# Altium footprint library D 电容.PCBLIB: 81 footprints (part 2 of 6)
Each footprint in its own frame and in the unit in brackets; x right, y up, seen from the top. Pads: shape width x height; smd on the part's side, far side on the other; paste and mask are expansions set on the pad; w line width, h text height; cw(c..) or ccw(c..) is an arc to the next point about the centre after c.
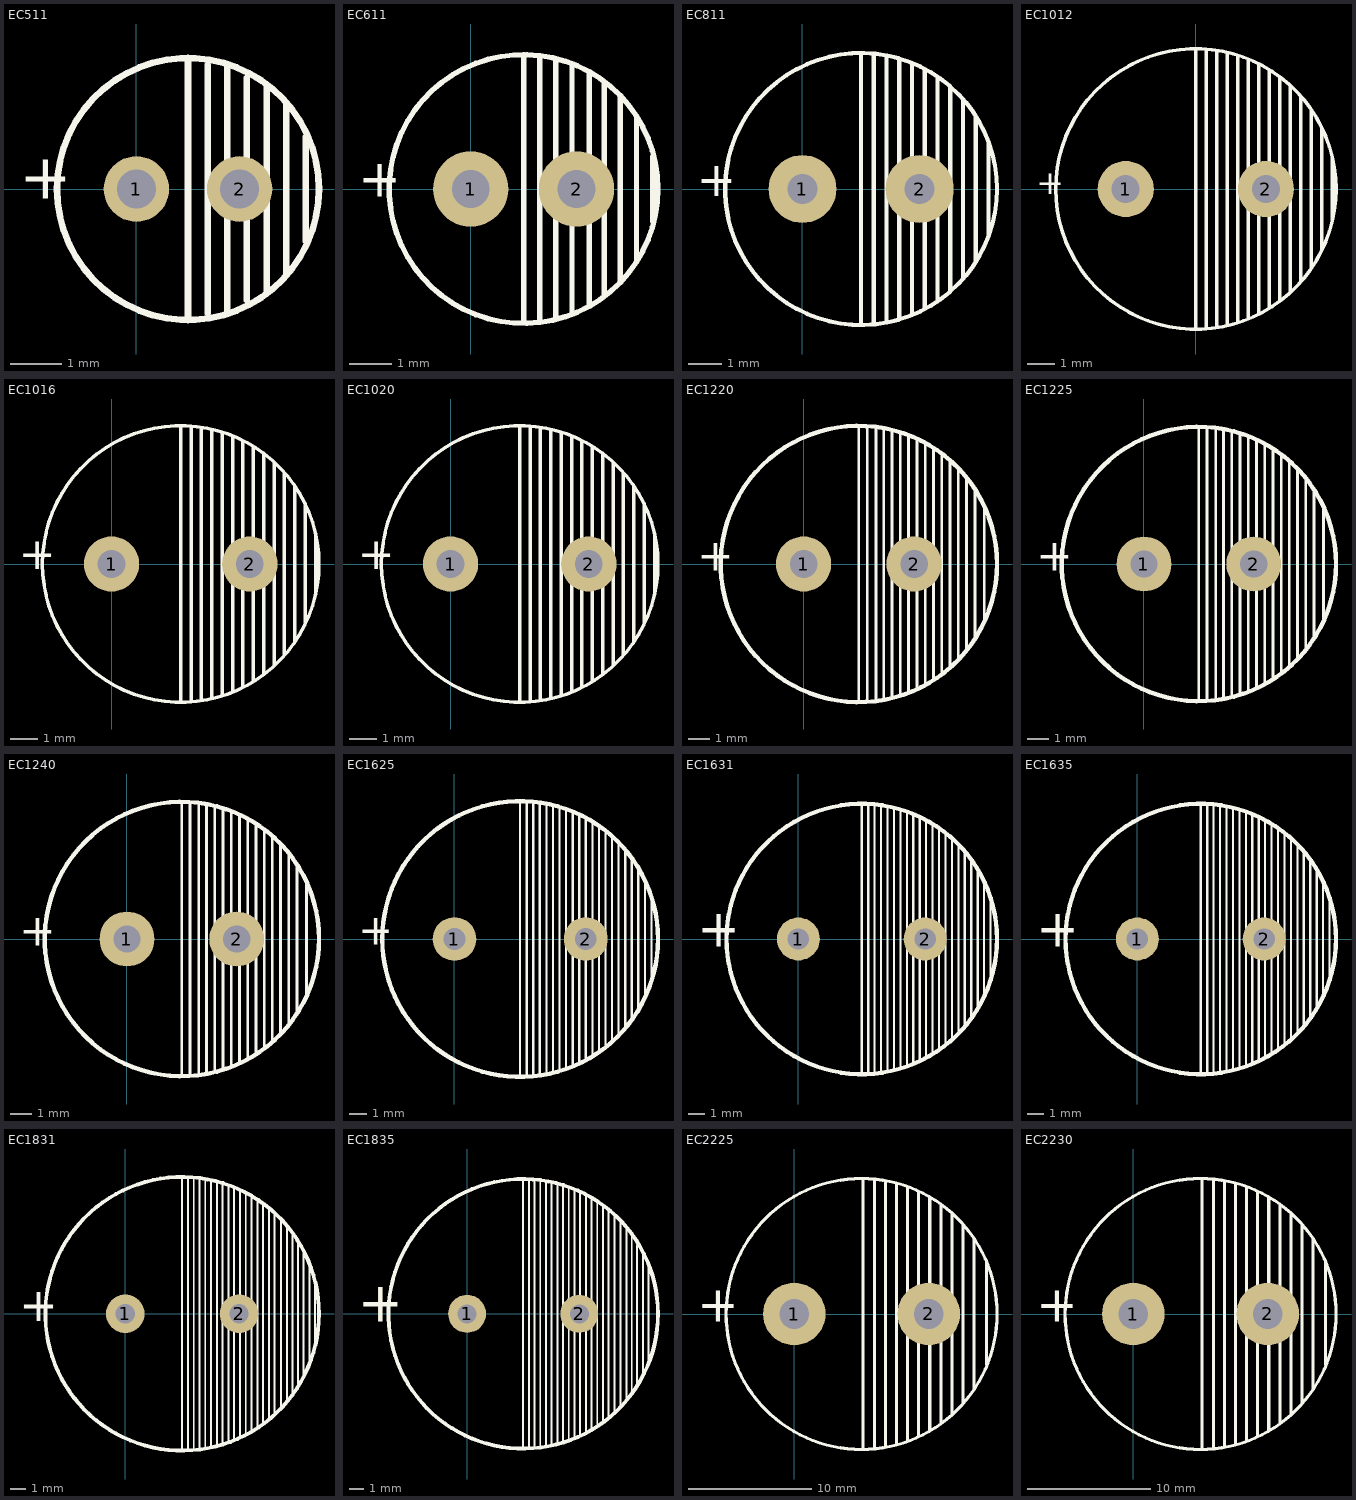
[diagram p1: the footprints below, top view; thin cyan lines are the x and y axes]

## EC511 [mil] "电解电容/脚距2mm/直径5mm/高度11mm"
height 433.07
pads (2):
  round 50 hole 30: 1(0,0) 2(78.74,0)
Top Overlay:
  circle w5: c39.37,0 r100
  lines w5: 39.37,-100 39.37,100 ; 54.37,-95 54.37,95 ; 69.37,-95 69.37,95 ; 84.37,-85 84.37,85 ; 99.37,-80 99.37,80 ; 114.37,-65 114.37,65 ; 129.37,-40 129.37,40
  text "+" at -89.63,-19 h60
Bottom Overlay:
  text "+" at -29.63,-19 h60

## EC611 [mil] "电解电容/脚距2.5mm/直径6.3mm/高度11mm"
height 433.07
pads (2):
  round 70 hole 35: 1(0,0) 2(98.43,0)
Top Overlay:
  circle w5: c49.21,0 r125
  lines w5: 49.21,-124 49.21,125 ; 64.21,-122 64.21,124 ; 79.21,-121 79.21,120 ; 94.21,-115 94.21,115 ; 110.21,-108 110.21,107 ; 124.21,-98 124.21,98 ; 139.21,-86 139.21,85 ; 154.21,-66 154.21,65 ; 169.21,-30 169.21,30
  text "+" at -104.79,-19 h60
Bottom Overlay:
  text "+" at -38.79,-19 h60

## EC811 [mil] "电解电容/脚距3.5mm/直径8mm/高度11.5mm"
height 452.76
pads (2):
  round 80 hole 35: 1(0,0) 2(137.8,0)
Top Overlay:
  circle w5: c68.9,0 r160
  lines w5: 68.9,-160 68.9,160 ; 83.9,-159 83.9,158 ; 98.9,-157 98.9,155 ; 113.9,-153 113.9,153 ; 128.9,-147 128.9,147 ; 143.9,-141 143.9,140 ; 158.9,-132 158.9,131 ; 173.9,-120 173.9,120 ; 188.9,-106 188.9,105 ; 203.9,-86 203.9,85 ; 218.9,-55 218.9,55
  text "+" at -124.1,-22 h70
Bottom Overlay:
  text "+" at -45.1,-22 h70

## EC1012 [mil] "电解电容/脚距5mm/直径10mm/高度12mm"
height 472.44
pads (2):
  round 80 hole 40: 1(-100,0) 2(100,0)
Top Overlay:
  circle w5: c0,0 r200
  lines w5: 0,-200 0,199 ; 15,-199 15,199 ; 30,-197 30,197 ; 45,-194 45,194 ; 60,-190 60,190 ; 75,-185 75,185 ; 90,-178 90,178 ; 105,-170 105,170 ; 120,-159 120,160 ; 135,-147 135,147 ; 150,-131 150,132 ; 165,-113 165,112 ; 180,-86 180,87 ; 195,-44 195,44
  text "+" at -228,-19 h60
Bottom Overlay:
  text "+" at -143,-19 h60

## EC1016 [mil] "电解电容/脚距5mm/直径10mm/高度16mm"
height 629.92
pads (2):
  round 80 hole 40: 1(0,0) 2(200,0)
Top Overlay:
  circle w5: c100,0 r200
  lines w5: 100,-200 100,199 ; 115,-199 115,199 ; 130,-197 130,197 ; 145,-194 145,194 ; 160,-190 160,190 ; 175,-185 175,185 ; 190,-178 190,178 ; 205,-170 205,170 ; 220,-159 220,160 ; 235,-147 235,147 ; 250,-131 250,132 ; 265,-113 265,112 ; 280,-86 280,87 ; 295,-44 295,44
  text "+" at -133.86,-23.62 h80
Bottom Overlay:
  text "+" at -43.31,-23.62 h80

## EC1020 [mil] "电解电容/脚距5mm/直径10mm/高度20mm"
height 787.4
pads (2):
  round 80 hole 40: 1(0,0) 2(200,0)
Top Overlay:
  circle w5: c100,0 r200
  lines w5: 100,-200 100,199 ; 115,-199 115,199 ; 130,-197 130,197 ; 145,-194 145,194 ; 160,-190 160,190 ; 175,-185 175,185 ; 190,-178 190,178 ; 205,-170 205,170 ; 220,-159 220,160 ; 235,-147 235,147 ; 250,-131 250,132 ; 265,-113 265,112 ; 280,-86 280,87 ; 295,-44 295,44
  text "+" at -133.86,-23.62 h80
Bottom Overlay:
  text "+" at -43.31,-23.62 h80

## EC1220 [mil] "电解电容/脚距5mm/直径12.5mm/高度20mm"
height 787.4
pads (2):
  round 100 hole 50: 1(0,0) 2(200,0)
Top Overlay:
  circle w8: c100,0 r250
  lines w5: 100,-250 100,250 ; 115,-245 115,245 ; 131,-244 131,244 ; 145,-243 145,243 ; 160,-241 160,241 ; 175,-236 175,236 ; 190,-230 190,232 ; 205,-225 205,225 ; 220,-217 220,217 ; 235,-208 235,208 ; 250,-198 250,198 ; 265,-185 265,186 ; 280,-172 280,171 ; 295,-155 295,154 ; 310,-133 310,134 ; 327,-101 327,100
  text "+" at -192.91,-31.5 h100
Bottom Overlay:
  text "+" at -55.12,-31.5 h100

## EC1225 [mil] "电解电容/脚距50mm/直径12mm/高度25mm"
height 984.25
pads (2):
  round 100 hole 50: 1(0,0) 2(200,0)
Top Overlay:
  circle w8: c100,0 r250
  lines w5: 100,-250 100,250 ; 115,-245 115,245 ; 131,-244 131,244 ; 145,-243 145,243 ; 160,-241 160,241 ; 175,-236 175,236 ; 190,-230 190,232 ; 205,-225 205,225 ; 220,-217 220,217 ; 235,-208 235,208 ; 250,-198 250,198 ; 265,-185 265,186 ; 280,-172 280,171 ; 295,-155 295,154 ; 310,-133 310,134 ; 327,-101 327,100
  text "+" at -196.85,-31.5 h100
Bottom Overlay:
  text "+" at -55.12,-31.5 h100

## EC1240 [mil] "电解电容/脚距50mm/直径12mm/高度40mm"
height 1574.8
pads (2):
  round 100 hole 50: 1(0,0) 2(200,0)
Top Overlay:
  circle w8: c100,0 r250
  lines w5: 100,-250 100,250 ; 115,-245 115,245 ; 131,-244 131,244 ; 145,-243 145,243 ; 160,-241 160,241 ; 175,-236 175,236 ; 190,-230 190,232 ; 205,-225 205,225 ; 220,-217 220,217 ; 235,-208 235,208 ; 250,-198 250,198 ; 265,-185 265,186 ; 280,-172 280,171 ; 295,-155 295,154 ; 310,-133 310,134 ; 327,-101 327,100
  text "+" at -196.85,-31.5 h100
Bottom Overlay:
  text "+" at -55.12,-31.5 h100

## EC1625 [mil] "电解电容/脚距7.5mm/直径16mm/高度25mm"
height 984.25
pads (2):
  round 100 hole 50: 1(0,0) 2(300,0)
Top Overlay:
  circle w10: c150,0 r315
  lines w5: 150,-315 150,315 ; 165,-315 165,315 ; 180,-315 180,315 ; 195,-310 195,310 ; 210,-310 210,310 ; 225,-305 225,305 ; 240,-300 240,300 ; 255,-295 255,295 ; 270,-290 270,290 ; 285,-285 285,285 ; 300,-275 300,275 ; 315,-270 315,265 ; 330,-260 330,260 ; 345,-245 345,245 ; 360,-235 360,235 ; 375,-220 375,220 ; 390,-205 390,205 ; 405,-185 405,185 ; 420,-160 420,165 ; 435,-135 435,135 ; 450,-100 450,95
  text "+" at -220.47,-35.43 h120
Bottom Overlay:
  text "+" at -59.06,-35.43 h120

## EC1631 [mm] "电解电容/脚距7.5mm/直径16mm/高度31.5mm"
height 31.5
pads (2):
  round 2.54 hole 1.27: 1(0,0) 2(7.5,0)
Top Overlay:
  circle w0.254: c3.75,0 r8.001
  lines w0.127: 3.75,-8.001 3.75,8.001 ; 4.131,-8.001 4.131,8.001 ; 4.512,-8.001 4.512,8.001 ; 4.893,-7.874 4.893,7.874 ; 5.274,-7.874 5.274,7.874 ; 5.655,-7.747 5.655,7.747 ; 6.036,-7.62 6.036,7.62 ; 6.417,-7.493 6.417,7.493 ; 6.798,-7.366 6.798,7.366 ; 7.179,-7.239 7.179,7.239 ; 7.56,-6.985 7.56,6.985 ; 7.941,-6.858 7.941,6.731 ; 8.322,-6.604 8.322,6.604 ; 8.703,-6.223 8.703,6.223 ; 9.084,-5.969 9.084,5.969 ; 9.465,-5.588 9.465,5.588 ; 9.846,-5.207 9.846,5.207 ; 10.227,-4.699 10.227,4.699 ; 10.608,-4.064 10.608,4.191 ; 10.989,-3.429 10.989,3.429 ; 11.37,-2.54 11.37,2.413
  text "+" at -6,-1.2 h3.81
Bottom Overlay:
  text "+" at -1.7,-1.2 h3.81

## EC1635 [mm] "电解电容/脚距7.5mm/直径16mm/高度35mm"
height 35
pads (2):
  round 2.54 hole 1.27: 1(0,0) 2(7.5,0)
Top Overlay:
  circle w0.254: c3.75,0 r8.001
  lines w0.127: 3.75,-8.001 3.75,8.001 ; 4.131,-8.001 4.131,8.001 ; 4.512,-8.001 4.512,8.001 ; 4.893,-7.874 4.893,7.874 ; 5.274,-7.874 5.274,7.874 ; 5.655,-7.747 5.655,7.747 ; 6.036,-7.62 6.036,7.62 ; 6.417,-7.493 6.417,7.493 ; 6.798,-7.366 6.798,7.366 ; 7.179,-7.239 7.179,7.239 ; 7.56,-6.985 7.56,6.985 ; 7.941,-6.858 7.941,6.731 ; 8.322,-6.604 8.322,6.604 ; 8.703,-6.223 8.703,6.223 ; 9.084,-5.969 9.084,5.969 ; 9.465,-5.588 9.465,5.588 ; 9.846,-5.207 9.846,5.207 ; 10.227,-4.699 10.227,4.699 ; 10.608,-4.064 10.608,4.191 ; 10.989,-3.429 10.989,3.429 ; 11.37,-2.54 11.37,2.413
  text "+" at -6,-1.2 h3.81
Bottom Overlay:
  text "+" at -1.7,-1.2 h3.81

## EC1831 [mm] "电解电容/脚距7.5mm/直径18mm/高度31.5mm"
height 31.5
pads (2):
  round 2.54 hole 1.27: 1(0,0) 2(7.5,0)
Top Overlay:
  circle w0.254: c3.75,0 r9.017
  lines w0.127: 3.75,-8.992 3.75,9.017 ; 4.131,-9.042 4.131,8.966 ; 4.512,-8.915 4.512,8.966 ; 4.893,-8.865 4.893,8.915 ; 5.274,-8.865 5.274,8.814 ; 5.655,-8.839 5.655,8.763 ; 6.036,-8.636 6.036,8.661 ; 6.417,-8.56 6.417,8.56 ; 6.798,-8.484 6.798,8.433 ; 7.179,-8.228 7.179,8.28 ; 7.56,-8.128 7.56,8.103 ; 7.941,-7.976 7.941,7.899 ; 8.322,-7.747 8.322,7.645 ; 8.703,-7.442 8.703,7.442 ; 9.084,-7.188 9.084,7.188 ; 9.465,-6.96 9.465,6.883 ; 9.846,-6.553 9.846,6.579 ; 10.252,-6.071 10.252,6.172 ; 10.659,-5.715 10.659,5.791 ; 11.014,-5.283 11.014,5.258 ; 11.37,-4.75 11.37,4.623 ; 11.751,-3.988 11.751,4.039 ; 12.132,-3.277 12.132,3.277 ; 12.513,-2.032 12.513,2.032
  text "+" at -7,-1.2 h3.81
Bottom Overlay:
  text "+" at -1.7,-1.2 h3.81

## EC1835 [mm] "电解电容/脚距7.5mm/直径18mm/高度35.5mm"
height 35.5
pads (2):
  round 2.54 hole 1.27: 1(0,0) 2(7.5,0)
Top Overlay:
  circle w0.254: c3.75,0 r9.017
  lines w0.127: 3.75,-8.992 3.75,9.017 ; 4.131,-9.042 4.131,8.966 ; 4.512,-8.915 4.512,8.966 ; 4.893,-8.865 4.893,8.915 ; 5.274,-8.865 5.274,8.814 ; 5.655,-8.839 5.655,8.763 ; 6.036,-8.636 6.036,8.661 ; 6.417,-8.56 6.417,8.56 ; 6.798,-8.484 6.798,8.433 ; 7.179,-8.228 7.179,8.28 ; 7.56,-8.128 7.56,8.103 ; 7.941,-7.976 7.941,7.899 ; 8.322,-7.747 8.322,7.645 ; 8.703,-7.442 8.703,7.442 ; 9.084,-7.188 9.084,7.188 ; 9.465,-6.96 9.465,6.883 ; 9.846,-6.553 9.846,6.579 ; 10.252,-6.071 10.252,6.172 ; 10.659,-5.715 10.659,5.791 ; 11.014,-5.283 11.014,5.258 ; 11.37,-4.75 11.37,4.623 ; 11.751,-3.988 11.751,4.039 ; 12.132,-3.277 12.132,3.277
  text "+" at -7.3,-1.4 h4.57
Bottom Overlay:
  text "+" at -1.6,-1.4 h4.57

## EC2225 [mm] "电解电容/脚距10mm/直径22mm/高度25mm"
height 25
pads (2):
  round 5.08 hole 2.4: 1(0,0) 2(10.922,0)
Top Overlay:
  circle w0.254: c5.461,0 r11
  lines w0.254: 5.588,-10.922 5.588,0 ; 5.588,-6.731 5.588,10.922 ; 6.5,-10.79 6.5,10.8 ; 7.4,-10.8 7.4,10.7 ; 8.3,-10.5 8.3,10.5 ; 9.2,-10.215 9.2,10.3 ; 10.1,-9.9 10.1,9.9 ; 11,-9.4 11,9.4 ; 11.9,-8.9 11.9,8.8 ; 12.8,-8.1 12.8,8.1 ; 13.7,-7.2 13.7,7.2 ; 14.6,-6.1 14.6,6.1 ; 15.6,-4.1 15.6,4.2
  text "+" at -7.9,-1.6 h5.08
Bottom Overlay:
  text "+" at -3,-1.6 h5.08

## EC2230 [mm] "电解电容/脚距10mm/直径22mm/高度30mm"
height 30
pads (2):
  round 5.08 hole 2.4: 1(0,0) 2(10.922,0)
Top Overlay:
  circle w0.254: c5.461,0 r11
  lines w0.254: 5.588,-10.922 5.588,0 ; 5.588,-6.731 5.588,10.922 ; 6.5,-10.79 6.5,10.8 ; 7.4,-10.8 7.4,10.7 ; 8.3,-10.5 8.3,10.5 ; 9.2,-10.215 9.2,10.3 ; 10.1,-9.9 10.1,9.9 ; 11,-9.4 11,9.4 ; 11.9,-8.9 11.9,8.8 ; 12.8,-8.1 12.8,8.1 ; 13.7,-7.2 13.7,7.2 ; 14.6,-6.1 14.6,6.1 ; 15.6,-4.1 15.6,4.2
  text "+" at -7.9,-1.6 h5.08
Bottom Overlay:
  text "+" at -3,-1.6 h5.08